# Altium footprint library logo.PCBLIB: 51 footprints (part 4 of 4)
Each footprint in its own frame and in the unit in brackets; x right, y up, seen from the top. Pads: shape width x height; smd on the part's side, far side on the other; paste and mask are expansions set on the pad; w line width, h text height; cw(c..) or ccw(c..) is an arc to the next point about the centre after c.
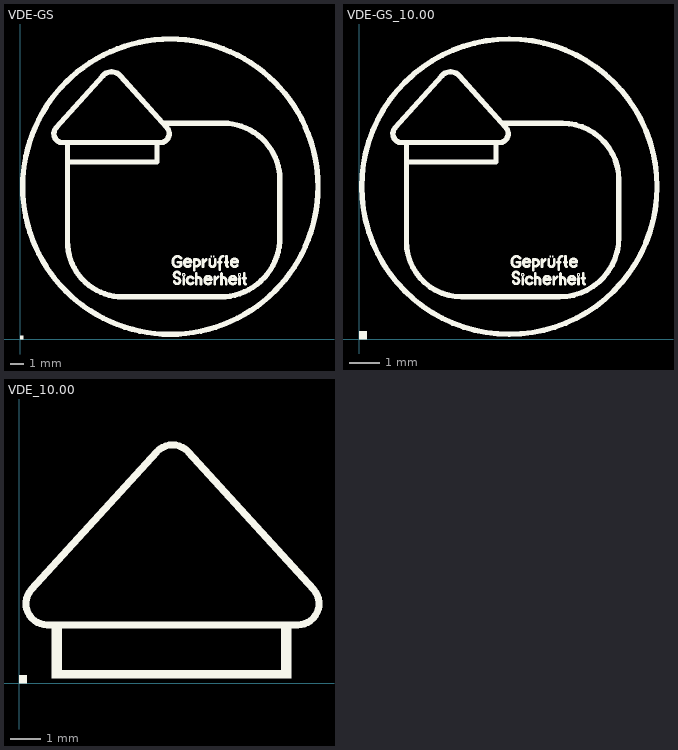
[diagram p3: the footprints below, top view; thin cyan lines are the x and y axes]

## VDE-GS [mm]
Top Overlay:
  circle w0.4: c11.25,11.4 r11.051
  circle w0: c12.25,4.8 r0.1
  circle w0: c16.425,4.8 r0.1
  rectangle: 14.25,6.1 14.35,6.25
  rectangle: 14.45,6.1 14.55,6.25
  region: 0,0 0.254,0 0.254,0.254 0,0.254
  region: 0,0 0.254,0 0.254,0.254 0,0.254
  region: 0,0 0.254,0 0.254,0.254 0,0.254
  region: 0,0 0.254,0 0.254,0.254 0,0.254
  region: 0,0 0.254,0 0.254,0.254 0,0.254
  lines w0.2: 11.55,4.3 ccw(c11.743,4.321) 11.65,4.15 ccw(c11.754,4.34) 11.9,4.5 ccw(c11.728,4.34) 11.725,4.575 cw(c11.795,4.834) 11.6,4.65 cw(c11.746,4.81) 11.85,5 cw(c11.756,4.829) 11.95,4.85 ; 11.8,5.75 12.05,5.75 12.05,5.6 cw(c11.85,5.6) 11.85,5.4 11.75,5.4 cw(c11.75,5.7) 11.45,5.7 11.45,5.85 cw(c11.783,5.85) 12.05,6.05 ; 12.25,4.1 12.25,4.55 ; 12.45,5.75 12.8,5.75 ccw(c12.55,5.75) 12.3,5.75 12.3,5.65 ccw(c12.558,5.675) 12.75,5.5 ; 12.95,4.2 cw(c12.758,4.375) 12.5,4.35 12.5,4.4 cw(c12.75,4.4) 12.95,4.55 ; 13.05,5.15 13.05,5.95 13.2,5.95 cw(c13.2,5.7) 13.2,5.45 13.15,5.45 ; 13.2,4.1 13.2,4.55 ; 13.2,4.9 13.2,4.55 ; 13.55,4.1 13.55,4.4 ccw(c13.338,4.388) 13.2,4.55 ; 13.7,5.4 13.7,5.95 ; 13.75,5.75 13.95,5.95 ; 13.975,4.45 14.325,4.45 ccw(c14.075,4.45) 13.825,4.45 13.825,4.35 ccw(c14.083,4.375) 14.275,4.2 ; 14.2,5.95 14.2,5.6 ccw(c14.4,5.6) 14.6,5.6 14.6,5.95 ; 14.575,4.1 14.575,4.65 ; 14.625,4.45 14.825,4.65 ; 14.85,5.75 15.05,5.75 ; 14.95,5.2 14.95,5.9 cw(c15.255,5.9) 15.2,6.2 ; 15.075,4.1 15.075,4.55 ; 15.075,4.9 15.075,4.55 ; 15.35,5.75 15.55,5.75 ; 15.425,4.1 15.425,4.4 ccw(c15.212,4.387) 15.075,4.55 ; 15.45,6.2 15.45,5.55 ccw(c15.612,5.55) 15.55,5.4 ; 15.825,4.45 16.175,4.45 ccw(c15.925,4.45) 15.675,4.45 15.675,4.35 ccw(c15.933,4.375) 16.125,4.2 ; 15.95,5.75 16.3,5.75 ccw(c16.05,5.75) 15.8,5.75 15.8,5.65 ccw(c16.058,5.675) 16.25,5.5 ; 16.425,4.1 16.425,4.55 ; 16.675,4.55 16.875,4.55 ; 16.775,4.9 16.775,4.25 ccw(c16.937,4.25) 16.875,4.1
  lines w0.4: 3.55,14.5 3.55,7.3 ccw(c7.7,7.3) 7.7,3.15 15,3.15 ccw(c15,7.6) 19.45,7.6 19.45,11.9 ccw(c15.2,11.9) 15.2,16.15 10.8,16.15 ; 3.75,13.25 10.25,13.25 10.25,14.6 ; 2.7,15.8 6.2,19.7 cw(c6.85,19.117) 7.5,19.7 11,15.8 cw(c10.5,15.364) 10.5,14.7 3.2,14.7 cw(c3.2,15.364) 2.7,15.8

## VDE-GS_10.00 [mm]
Top Overlay:
  circle w0.178: c4.996,5.062 r4.908
  circle w0: c5.44,2.132 r0.044
  circle w0: c7.294,2.132 r0.044
  rectangle: 6.328,2.709 6.373,2.775
  rectangle: 6.417,2.709 6.462,2.775
  region: 0,0 0.254,0 0.254,0.254 0,0.254
  region: 0,0 0.254,0 0.254,0.254 0,0.254
  region: 0,0 0.254,0 0.254,0.254 0,0.254
  region: 0,0 0.254,0 0.254,0.254 0,0.254
  region: 0,0 0.254,0 0.254,0.254 0,0.254
  lines w0.089: 5.129,1.91 ccw(c5.215,1.919) 5.173,1.843 ccw(c5.22,1.927) 5.285,1.998 ccw(c5.208,1.927) 5.207,2.032 cw(c5.238,2.147) 5.151,2.065 cw(c5.216,2.136) 5.262,2.22 cw(c5.221,2.145) 5.307,2.154 ; 5.24,2.553 5.351,2.553 5.351,2.487 cw(c5.262,2.487) 5.262,2.398 5.218,2.398 cw(c5.218,2.531) 5.085,2.531 5.085,2.598 cw(c5.233,2.598) 5.351,2.687 ; 5.44,1.821 5.44,2.021 ; 5.529,2.553 5.684,2.553 ccw(c5.573,2.553) 5.462,2.553 5.462,2.509 ccw(c5.577,2.52) 5.662,2.442 ; 5.751,1.865 cw(c5.666,1.943) 5.551,1.932 5.551,1.954 cw(c5.662,1.954) 5.751,2.021 ; 5.795,2.287 5.795,2.642 5.862,2.642 cw(c5.862,2.531) 5.862,2.42 5.84,2.42 ; 5.862,1.821 5.862,2.021 ; 5.862,2.176 5.862,2.021 ; 6.017,1.821 6.017,1.954 ccw(c5.923,1.948) 5.862,2.021 ; 6.084,2.398 6.084,2.642 ; 6.106,2.553 6.195,2.642 ; 6.206,1.976 6.361,1.976 ccw(c6.25,1.976) 6.139,1.976 6.139,1.932 ccw(c6.254,1.943) 6.339,1.865 ; 6.306,2.642 6.306,2.487 ccw(c6.395,2.487) 6.484,2.487 6.484,2.642 ; 6.472,1.821 6.472,2.065 ; 6.495,1.976 6.583,2.065 ; 6.595,2.553 6.684,2.553 ; 6.639,2.309 6.639,2.62 cw(c6.775,2.62) 6.75,2.753 ; 6.694,1.821 6.694,2.021 ; 6.694,2.176 6.694,2.021 ; 6.817,2.553 6.905,2.553 ; 6.85,1.821 6.85,1.954 ccw(c6.756,1.948) 6.694,2.021 ; 6.861,2.753 6.861,2.465 ccw(c6.933,2.465) 6.905,2.398 ; 7.028,1.976 7.183,1.976 ccw(c7.072,1.976) 6.961,1.976 6.961,1.932 ccw(c7.076,1.943) 7.161,1.865 ; 7.083,2.553 7.238,2.553 ccw(c7.127,2.553) 7.016,2.553 7.016,2.509 ccw(c7.131,2.52) 7.216,2.442 ; 7.294,1.821 7.294,2.021 ; 7.405,2.021 7.494,2.021 ; 7.45,2.176 7.45,1.887 ccw(c7.522,1.887) 7.494,1.821
  lines w0.178: 1.577,6.439 1.577,3.242 ccw(c3.419,3.242) 3.419,1.399 6.661,1.399 ccw(c6.661,3.375) 8.638,3.375 8.638,5.285 ccw(c6.75,5.285) 6.75,7.172 4.796,7.172 ; 1.665,5.884 4.552,5.884 4.552,6.484 ; 1.199,7.016 2.753,8.749 cw(c3.042,8.49) 3.331,8.749 4.885,7.016 cw(c4.663,6.823) 4.663,6.528 1.421,6.528 cw(c1.421,6.823) 1.199,7.016

## VDE_10.00 [mm]
Top Overlay:
  rectangle: 1.087,0.147 1.44,1.851
  rectangle: 1.411,0.147 8.772,0.441
  rectangle: 8.728,0.147 9.08,1.851
  rectangle: 1.087,0.147 1.44,1.851
  rectangle: 1.411,0.147 8.772,0.441
  rectangle: 8.728,0.147 9.08,1.851
  region: 0,0 0.254,0 0.254,0.254 0,0.254
  region: 0,0 0.254,0 0.254,0.254 0,0.254
  region: 0,0 0.254,0 0.254,0.254 0,0.254
  region: 0,0 0.254,0 0.254,0.254 0,0.254
  region: 0,0 0.254,0 0.254,0.254 0,0.254
  region: 0,0 0.254,0 0.254,0.254 0,0.254
  lines w0.235: 0.411,3.115 4.584,7.7 ; 0.411,3.115 ccw(c0.94,2.646) 0.94,1.94 ; 0.411,3.115 4.584,7.7 ; 0.411,3.115 ccw(c0.94,2.646) 0.94,1.94 ; 0.94,1.94 9.286,1.94 ; 0.94,1.94 9.286,1.94 ; 4.584,7.7 cw(c5.113,7.218) 5.642,7.7 ; 4.584,7.7 cw(c5.113,7.218) 5.642,7.7 ; 5.642,7.7 9.815,3.115 ; 5.642,7.7 9.815,3.115 ; 9.286,1.94 ccw(c9.286,2.646) 9.815,3.115 ; 9.286,1.94 ccw(c9.286,2.646) 9.815,3.115